# EAGLE library part PSTA-08 (library con-phoenix-350)
PSTA 1,5/XX-3,5 3.5 MM Terminal Block
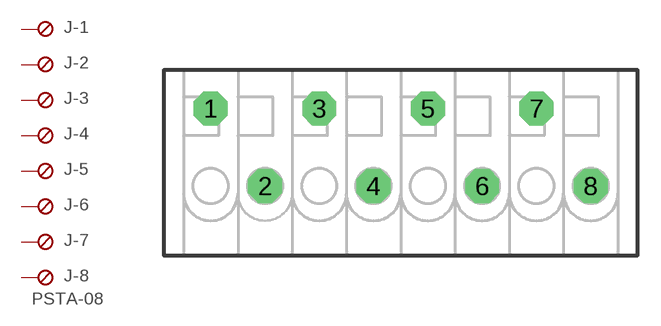
[diagram p3: symbol with the pads of PSTA-08; footprint PSTA-08]

Designator prefix J; gates -1=SKB -2=SKB -3=SKB -4=SKB -5=SKB -6=SKB -7=SKB -8=SKBU+V

## PSTA-08  [PSTA-08]
1  -1:S  pas
2  -2:S  pas
3  -3:S  pas
4  -4:S  pas
5  -5:S  pas
6  -6:S  pas
7  -7:S  pas
8  -8:S  pas

## Footprint PSTA-08 (pad centres in mm)
PTSA 1,5/8-3,5-Z 3.5mm
drill 1.016 pad 2.184 octagon: 1 -12.25,5; 2 -8.75,0; 3 -5.25,5; 4 -1.75,0; 5 1.75,5; 6 5.25,0; 7 8.75,5; 8 12.25,0